# Altium footprint library SPECCY2007_Library.PcbLib: 20 footprints (part 2 of 2)
Each footprint in its own frame and in the unit in brackets; x right, y up, seen from the top. Pads: shape width x height; smd on the part's side, far side on the other; paste and mask are expansions set on the pad; w line width, h text height; cw(c..) or ccw(c..) is an arc to the next point about the centre after c.
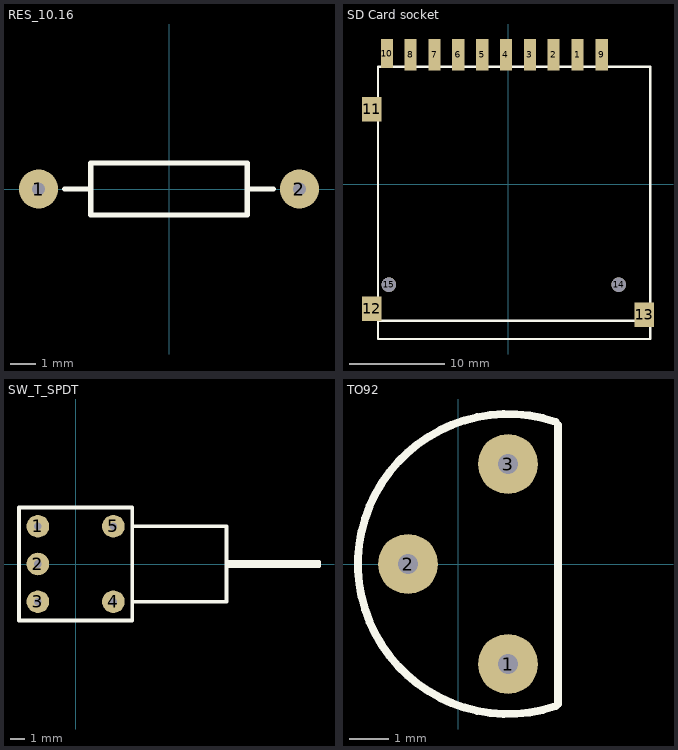
[diagram p1: the footprints below, top view; thin cyan lines are the x and y axes]

## RES_10.16 [mil] "Резистор, Thru-Hole; 2 Leads; 0.4 in Pin Spacing"
height 80
pads (2):
  round 60 hole 20: 1(-200,0) 2(200,0)
Top Overlay:
  lines w7.87: -160,0 -120,0 ; 120,0 160,0 ; -120,-40 120,-40 120,40 -120,40 -120,-40
3D body: height 115.5, standoff -100, extent -212,-45.5 212,45.5

## SD Card socket [mil] "Разъем SD карты"
height 100
pads (15):
  rect 50x130 smd: 1(287.5,535) 2(188.5,535) 3(90.5,535) 4(-8.5,535) 5(-106.5,535) 6(-205.5,535) 7(-303.5,535) 8(-402.5,535) 9(387.5,535)
  rect 50x120 smd: 10(-500.5,540)
  rect 80x100 smd: 11(-562.5,310) 12(-562.5,-515) 13(562.5,-540)
  round 60 hole 60: 14(457.5,-415) 15(-492.5,-415)
Top Overlay:
  lines w10: -537.5,-565 587.5,-565 ; -537.5,-640 -537.5,485 587.5,485 587.5,-640 ; -537.5,-640 587.5,-640 ; -537.5,-640 587.5,-640
3D body: height 118.05, standoff -39.43, extent -547.24,-797.52 578.75,600.11

## SW_T_SPDT [mil] "Кнопка питания на плату"
height 200
pads (5):
  round 60 hole 20: 1(-100,100) 2(-100,0) 3(-100,-100) 4(100,-100) 5(100,100)
Top Overlay:
  lines w10: 150,-100 200,-100 400,-100 400,100 150,100 ; 400,-5 645,-5 645,5 400,5 ; -150,-150 -150,150 150,150 150,-150 -150,-150
3D body: height 287.8, standoff -118, extent -110.93,-175 688.12,171

## TO92 [mil] "TO, Flat Index; 3 In-Line, Axial Leads; Body Dia. 4.8mm; Leads 0.48 x 0.5 mm (max)"
height 209.84
pads (3):
  round 60 hole 20: 1(50,-100) 2(-50,0) 3(50,100)
Top Overlay:
  lines w7.87: 97.43,-142.3 cw(c50,0) 97.43,142.3 ; 100,-140 100,139
3D body: height 314.96, standoff -118.98, extent -60.61,-109.74 110.24,109.74